# EAGLE library part THRU-HOLE1 (library dec-con)
Thru-Hole addition to double-sided edge connector.
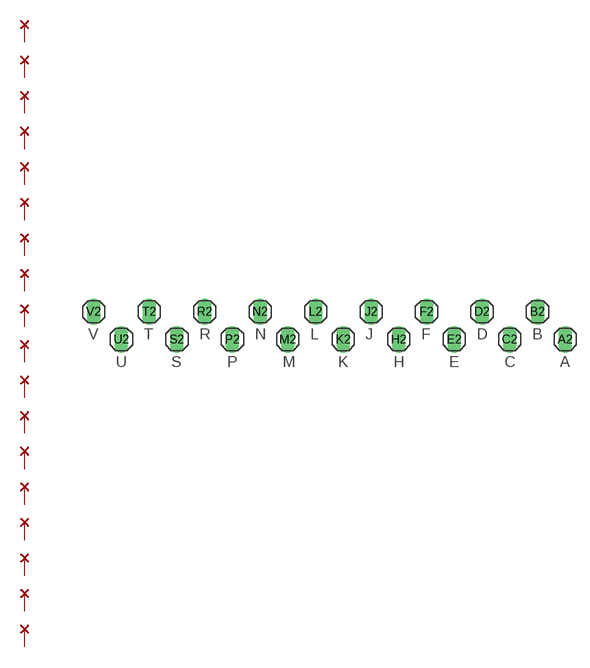
[diagram p23: symbol with the pads of THRU-HOLE1; footprint THRU-HOLE1]

Designator prefix -; gates K2=THRU-HOLE-PAD J2=THRU-HOLE-PAD H2=THRU-HOLE-PAD L2=THRU-HOLE-PAD M2=THRU-HOLE-PAD N2=THRU-HOLE-PAD P2=THRU-HOLE-PAD F2=THRU-HOLE-PAD E2=THRU-HOLE-PAD D2=THRU-HOLE-PAD C2=THRU-HOLE-PAD R2=THRU-HOLE-PAD S2=THRU-HOLE-PAD B2=THRU-HOLE-PAD A2=THRU-HOLE-PAD T2=THRU-HOLE-PAD U2=THRU-HOLE-PAD V2=THRU-HOLE-PAD

## THRU-HOLE1  [THRU-HOLE1]
A2  A2:P$1  pas
B2  B2:P$1  pas
C2  C2:P$1  pas
D2  D2:P$1  pas
E2  E2:P$1  pas
F2  F2:P$1  pas
H2  H2:P$1  pas
J2  J2:P$1  pas
K2  K2:P$1  pas
L2  L2:P$1  pas
M2  M2:P$1  pas
N2  N2:P$1  pas
P2  P2:P$1  pas
R2  R2:P$1  pas
S2  S2:P$1  pas
T2  T2:P$1  pas
U2  U2:P$1  pas
V2  V2:P$1  pas

## Footprint THRU-HOLE1 (pad centres in mm)
PIN HEADER (.125")
drill 1.016 long: A2 28.575,3.175; B2 25.4,6.35; C2 22.225,3.175; D2 19.05,6.35; E2 15.875,3.175; F2 12.7,6.35; H2 9.525,3.175; J2 6.35,6.35; K2 3.175,3.175; L2 0,6.35; M2 -3.175,3.175; N2 -6.35,6.35; P2 -9.525,3.175; R2 -12.7,6.35; S2 -15.875,3.175; T2 -19.05,6.35; U2 -22.225,3.175; V2 -25.4,6.35